# Altium schematic symbol library EL-sense_Capacitor.SchLib: 4 symbols
Pins are listed as number, name and electrical type; pins without a type are passive.

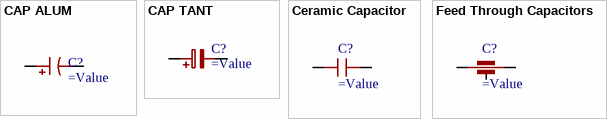
[diagram p0: symbols CAP ALUM to Feed Through Capacitors]

## CAP ALUM
designator C?
pins: 1, 2

## CAP TANT
designator C?
pins: 1, 2

## Ceramic Capacitor
designator C?
pins: 1, 2

## Feed Through Capacitors
designator C?
pins: 1, 2, 3